# Altium integrated library AP5056.IntLib: 1 symbol
Pins are listed as number, name and electrical type; pins without a type are passive.

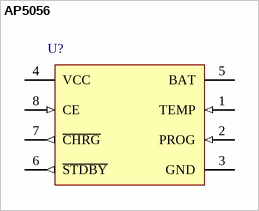
[diagram p0: symbol AP5056]

## AP5056
designator U?, comment 1A Linear Li-Ion Battery Charger  (value not drawn)
SOP8/MSOP8 package. 1A Linear Li-Ion Battery Charger; MPN: AP5056; Mounting Technology: Surface Mount; ComponentLink2URL: http://file.yizimg.com/328625/2012112613030098.pdf; ComponentLink2Description: Datasheet; Supplier 1: LCSC; Supplier Part Number 1: C81910; Package: SOP-8_EP_150mil
footprint SOP8_N_EP (8-Pin Small Outline Integrated Circuit 1.27 mm Pitch, IPC Medium Density)
pins: 1 TEMP (in) "Battery temperature detection input.", 2 PROG (in) "Charge Current Programming Pin. Provides a virtual reference voltage of 1V for an external nesistor (RPROG) connected between this pin and ground to program the battery charge current. In constant current mode the typical (See Datasheet)", 3 GND (power) "Ground. Provides a reference for the internal voltage regulator and a return for all internal circuits.", 4 VCC (power) "Positive Input Supply Voltage. This pin supplies power to the internal control circuitry. This pin should be bypassed to ground with a capacitor (See Datasheet)", 5 BAT (power) "Charge Current Output. Provides charge current to the battery and regulates the final float voltage to", 6 ~{STDBY} (out) "When the battery charge is complete, STDBY is pulled LOW", 7 ~{CHRG} (out) "When the battery is charging, the CHRG pin is pulled low by an nternal N-channel MOSFET.", 8 CE (in) "Chip enable input. High input level would Enable Charging."